# Altium footprint library lp3879(mra08).PcbLib: 3 footprints
Each footprint in its own frame and in the unit in brackets; x right, y up, seen from the top. Pads: shape width x height; smd on the part's side, far side on the other; paste and mask are expansions set on the pad; w line width, h text height; cw(c..) or ccw(c..) is an arc to the next point about the centre after c.
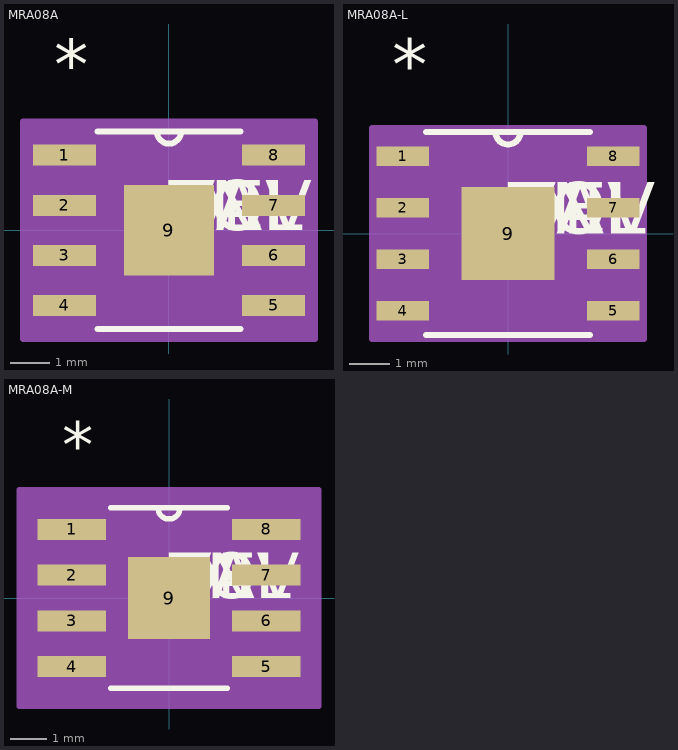
[diagram p0: the footprints below, top view; thin cyan lines are the x and y axes]

## MRA08A [mil]
pads (9):
  rect 63x21 smd: 1(-104.5,75) 2(-104.5,25) 3(-104.5,-25) 4(-104.5,-75) 5(104.5,-75) 6(104.5,-25) 7(104.5,25) 8(104.5,75)
  rect 90x90 smd paste-44.5: 9(0,0)
Top Overlay:
  lines w6: -71.38,-98.5 71.38,-98.5 ; -71.38,98.5 71.38,98.5 ; -12,98.5 ccw(c0,98.5) 12,98.5
  text "*" at -114.5,141 h50
  text "PN" at 0,0 h50
  text "DEV" at 0,0 h50
  text "VAL" at 0,0 h50
  text "TOL" at 0,0 h50
Top Paste:
  region: 45,45 -45,45 -45,-45 45,-45
Mechanical 13:
  lines w0: -12,98.5 ccw(c0,98.5) 12,98.5
  text "*" at -114.5,141 h50
  text "RefDes2" at 0,0 h50
Mechanical 15:
  region: 146,-108.5 -146,-108.5 -146,108.5 146,108.5
  lines w6: -146,-108.5 -146,108.5 146,108.5 146,-108.5 -146,-108.5

## MRA08A-L [mil]
pads (9):
  rect 51x19 smd: 1(-102.5,75) 2(-102.5,25) 3(-102.5,-25) 4(-102.5,-75) 5(102.5,-75) 6(102.5,-25) 7(102.5,25) 8(102.5,75)
  rect 90x90 smd paste-44.5: 9(0,0)
Top Overlay:
  lines w6: -79.5,-98.5 79.5,-98.5 ; -79.5,98.5 79.5,98.5 ; -12,98.5 ccw(c0,98.5) 12,98.5
  text "*" at -112.5,139 h50
  text "PN" at 0,0 h50
  text "DEV" at 0,0 h50
  text "VAL" at 0,0 h50
  text "TOL" at 0,0 h50
Top Paste:
  region: 45,45 -45,45 -45,-45 45,-45
Mechanical 13:
  lines w0: -12,98.5 ccw(c0,98.5) 12,98.5
  text "*" at -112.5,139 h50
  text "RefDes2" at 0,0 h50
Mechanical 15:
  region: 132,-102.5 -132,-102.5 -132,102.5 132,102.5
  lines w6: -132,-102.5 -132,102.5 132,102.5 132,-102.5 -132,-102.5

## MRA08A-M [mil]
pads (9):
  rect 75x23 smd: 1(-106.5,75) 2(-106.5,25) 3(-106.5,-25) 4(-106.5,-75) 5(106.5,-75) 6(106.5,-25) 7(106.5,25) 8(106.5,75)
  rect 90x90 smd paste-44.5: 9(0,0)
Top Overlay:
  lines w6: -63.75,-98.5 63.75,-98.5 ; -63.75,98.5 63.75,98.5 ; -12,98.5 ccw(c0,98.5) 12,98.5
  text "*" at -116.5,143 h50
  text "PN" at 0,0 h50
  text "DEV" at 0,0 h50
  text "VAL" at 0,0 h50
  text "TOL" at 0,0 h50
Top Paste:
  region: 45,45 -45,45 -45,-45 45,-45
Mechanical 13:
  lines w0: -12,98.5 ccw(c0,98.5) 12,98.5
  text "*" at -116.5,143 h50
  text "RefDes2" at 0,0 h50
Mechanical 15:
  region: 164,-118.5 -164,-118.5 -164,118.5 164,118.5
  lines w6: -164,-118.5 -164,118.5 164,118.5 164,-118.5 -164,-118.5